# Altium schematic symbol library RPSLib_Antenna.SchLib: 6 symbols
Pins are listed as number, name and electrical type; pins without a type are passive.

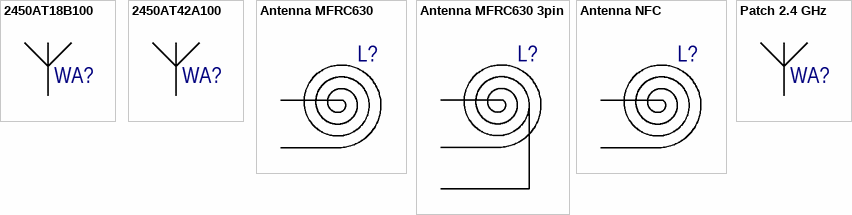
[diagram p0: symbols 2450AT18B100 to Patch 2.4 GHz]

## 2450AT18B100
designator WA?  (value not drawn)
2450 MHz Chip antenna; Manufacturer: Johanson; Manufacturer Part Number: 2450AT18B100E; Impedance: 50R; Bandwidth: 100MHz; Power Rating: 3W; Number of Bands: 1; Return Loss: -9.5dB; Frequency: 2.45GHz; Max Frequency: 2.5GHz; Gain: -0.5dB; Supplier 1: Digi-Key; Stock 1: 179928; Pricing 1: 1=0.62, 10=0.541, 25=0.4788, 100=0.4172, 250=0.36308, 500=0.309, 1000=0.2472 (USD); Mount: Surface Mount; Case/Package: CSMD; Contact Plating: Tin; Min Operating Temperature: -40°C; Max Operating Temperature: 85°C; Package Quantity: 1; Packaging: Tape and Reel; Max Power Dissipation: 3W; Termination: Solder; Length: 3.2mm; Height: 0.051inch; Width: 1.6mm; Radiation Hardening: No; REACH SVHC: No SVHC; РКД Наименование: *; Supplier Part Number 1: 712-1006-1-ND
footprint 2450AT18B100 (2450 MHz Chip Antenna)
pins: 1 2

## 2450AT42A100
designator WA?  (value not drawn)
2450 MHz Chip antenna; Manufacturer: Johanson; Manufacturer Part Number: 2450AT42A100E; Impedance: 50R; Power Rating: 3W; Number of Bands: 1; Return Loss: -9.5dB; Frequency: 2.45GHz; Max Frequency: 2.5GHz; Gain: -1dB; РКД Наименование: 2450AT42A100 - Chip Antenna 2.4 GHz; Supplier 1: Digi-Key; Stock 1: 0; Mount: Surface Mount; Number of Pins: 2; Contact Plating: Tin; Min Operating Temperature: -40°C; Max Operating Temperature: 85°C; Package Quantity: 1; Packaging: Tape and Reel; Max Power Dissipation: 3W; Composition: Ceramic; Length: 5mm; Height: 0.043inch; Width: 2mm; Radiation Hardening: No; REACH SVHC: Unknown; Termination: Solder; Supplier Part Number 1: 712-1007-1-ND
footprint 2450AT42A100 (2450 MHz Chip antenna)
pins: 1 21

## Antenna MFRC630
designator L?, comment Антенна  (value not drawn)  (net tie, no BOM)
footprint MFRC630 Antenna 3x45 (Антенна 3 витка 45 мм)
footprint MFRC630 Antenna 4x45 (Антенна 4 витка 45 мм)
footprint MFRC630 Antenna 5x45 (Антенна 5 витка 45 мм)
footprint MFRC630 Antenna 3x44 circ (Антенна 3 витка 44 мм)
footprint MFRC630 Antenna 4x44 circ (Антенна 4витка 44 мм)
footprint MFRC630 Antenna 5x44 circ (Антенна 5 витков 44 мм)
footprint PN532 4 turn simmetrical
pins: 1, 2

## Antenna MFRC630 3pin
designator L?, comment Антенна  (value not drawn)  (net tie, no BOM)
footprint MFRC630 Antenna 6x55 circ (Антенна 6 витков 35 мм)
footprint PN532 4 turn simmetrical
pins: 1, 2, 3

## Antenna NFC
designator L?, comment Антенна  (value not drawn)  (net tie, no BOM)
footprint Antenna 3x40c (Антенна спиральная 3 витка, 40 мм)
footprint Antenna 3x45c (Антенна спиральная 3 витка, 45 мм)
footprint Antenna 4x40c (Антенна спиральная 4 витка, 40 мм)
footprint Antenna 4x45c (Антенна спиральная 4 витка, 45 мм)
footprint Antenna 5x40c (Антенна спиральная 5 витков, 40 мм)
footprint Antenna 5x45c (Антенна спиральная 5 витков, 45 мм)
footprint Antenna 3x40h (Антенна гексагональная 3 витка, 40 мм)
footprint Antenna 3x45h (Антенна гексагональная 3 витка, 45 мм)
footprint Antenna 3x50h (Антенна гексагональная 3 витка, 50 мм)
footprint Antenna 4x40h (Антенна гексагональная 4 витка, 40 мм)
footprint Antenna 4x45h (Антенна гексагональная 4 витка, 45 мм)
footprint Antenna 4x50h (Антенна гексагональная 4 витка, 50 мм)
pins: 1, 2

## Patch 2.4 GHz
designator WA?  (value not drawn)  (net tie, no BOM)
footprint 2.4GHz Patch
pins: 1